# Altium footprint library SamacSys.PcbLib: 25 footprints (part 2 of 2)
Each footprint in its own frame and in the unit in brackets; x right, y up, seen from the top. Pads: shape width x height; smd on the part's side, far side on the other; paste and mask are expansions set on the pad; w line width, h text height; cw(c..) or ccw(c..) is an arc to the next point about the centre after c.
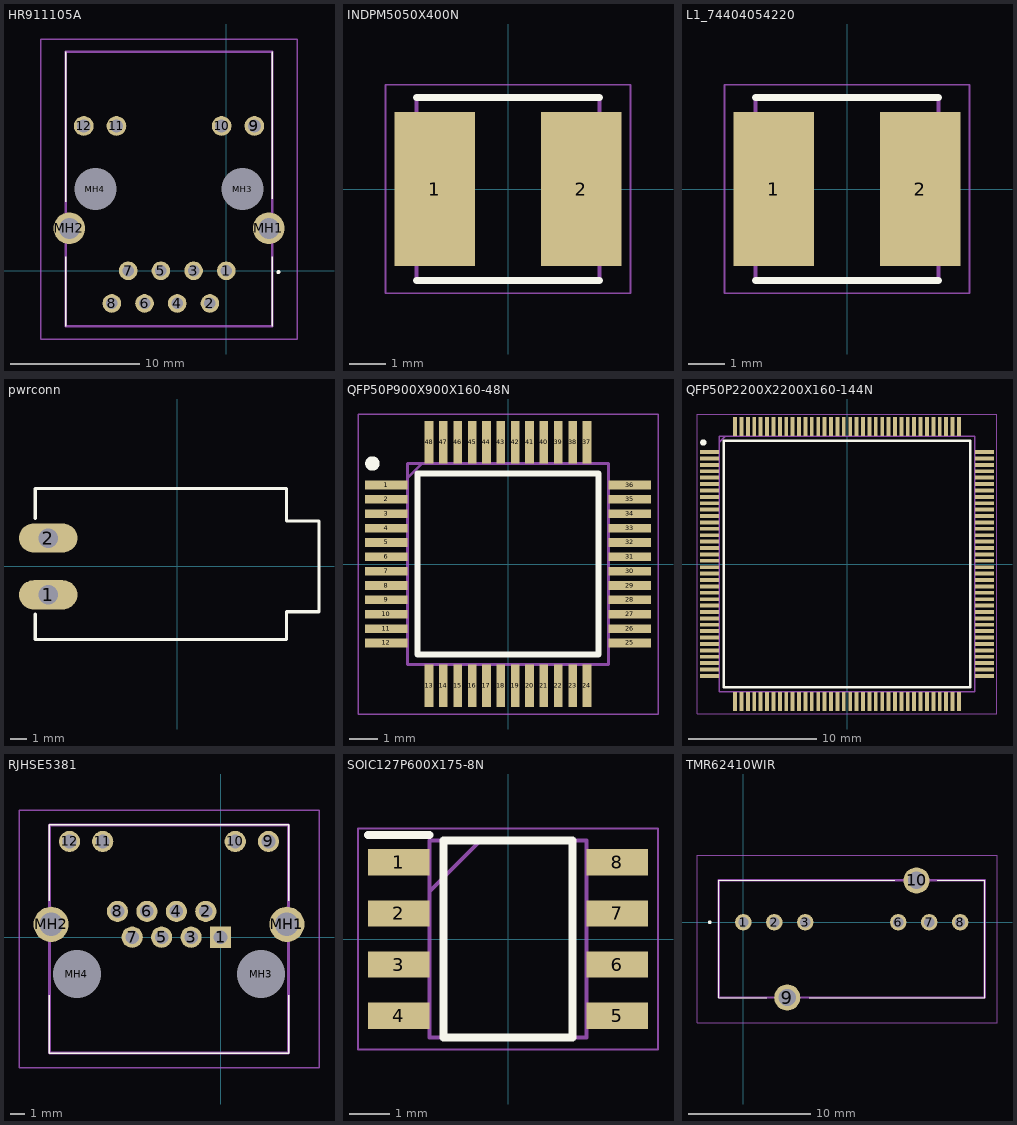
[diagram p1: the footprints below, top view; thin cyan lines are the x and y axes]

## HR911105A [mm]
pads (16):
  round 1.446 hole 0.89: 1(0,0) 2(-1.27,-2.54) 3(-2.54,0) 4(-3.81,-2.54) 5(-5.08,0) 6(-6.35,-2.54) 7(-7.62,0) 8(-8.89,-2.54)
  round 1.53 hole 1.02: 9(2.18,11.25) 10(-0.36,11.25) 11(-8.53,11.25) 12(-11.07,11.25)
  round 2.445 hole 1.63: MH1(3.3,3.3) MH2(-12.19,3.3)
  round 1.625 hole 3.25 unplated: MH3(1.27,6.35) MH4(-10.16,6.35)
Top Overlay:
  lines w0.1: -12.465,-4.3 -12.465,1.1 -12.465,-4.3 ; -12.465,5.35 -12.465,17 -12.465,5.35 ; 3.575,-4.3 3.575,1.1 3.575,-4.3 ; 3.575,5.6 3.575,17 3.575,5.6
  lines w0.2: 4.05,-0.15 ccw(c4.05,-0.1) 4.05,-0.05 ; 4.05,-0.15 cw(c4.05,-0.1) 4.05,-0.05 ; 4.05,-0.15 ccw(c4.05,-0.1) 4.05,-0.05
Mechanical 13:
  lines w0.2: -12.465,-4.3 -12.465,17 3.575,17 3.575,-4.3 -12.465,-4.3
Mechanical 15:
  lines w0.1: -14.417,-5.3 -14.417,18 5.518,18 5.518,-5.3 -14.417,-5.3
3D body "HR911105A.stp": height 13.85, standoff -5, extent -12.899,-4.3 4.015,17

## INDPM5050X400N [mm]
pads (2):
  rect 2.2x4.2 smd: 1(-2,0) 2(2,0)
Top Overlay:
  lines w0.2: -2.5,-2.5 2.5,-2.5 ; -2.5,2.5 2.5,2.5
Mechanical 13:
  lines w0.1: -2.5,-2.5 -2.5,2.5 2.5,2.5 2.5,-2.5 -2.5,-2.5
Mechanical 15:
  lines w0.05: -3.35,-2.85 -3.35,2.85 3.35,2.85 3.35,-2.85 -3.35,-2.85
3D body "74404054220.stp": height 4, standoff 0, extent -2.5,-2.5 2.5,2.5

## L1_74404054220 [mm]
pads (2):
  rect 2.2x4.2 smd: 1(-2,0) 2(2,0)
Top Overlay:
  lines w0.2: -2.5,-2.5 2.5,-2.5 ; -2.5,2.5 2.5,2.5
Mechanical 13:
  lines w0.1: -2.5,-2.5 -2.5,2.5 2.5,2.5 2.5,-2.5 -2.5,-2.5
Mechanical 15:
  lines w0.05: -3.35,-2.85 -3.35,2.85 3.35,2.85 3.35,-2.85 -3.35,-2.85
3D body "74404054220.stp": height 4, standoff 0, extent -2.5,-2.5 2.5,2.5

## pwrconn [mm]
pads (2):
  oval 3.6x1.8 hole 1.2: 1(-7.95,-1.75) 2(-7.95,1.75)
Top Overlay:
  lines w0.2: -8.75,-2.95 -8.75,-4.5 6.75,-4.5 6.75,-2.8 8.75,-2.8 8.75,2.8 6.75,2.8 6.75,4.8 -8.75,4.8 -8.75,2.95

## QFP50P900X900X160-48N [mm]
pads (48):
  rect 1.475x0.3 smd: 1(-4.238,2.75) 2(-4.238,2.25) 3(-4.238,1.75) 4(-4.238,1.25) 5(-4.238,0.75) 6(-4.238,0.25) 7(-4.238,-0.25) 8(-4.238,-0.75) 9(-4.238,-1.25) 10(-4.238,-1.75) 11(-4.238,-2.25) 12(-4.238,-2.75) 25(4.238,-2.75) 26(4.238,-2.25) 27(4.238,-1.75) 28(4.238,-1.25) 29(4.238,-0.75) 30(4.238,-0.25) 31(4.238,0.25) 32(4.238,0.75) 33(4.238,1.25) 34(4.238,1.75) 35(4.238,2.25) 36(4.238,2.75)
  rect 0.3x1.475 smd: 13(-2.75,-4.238) 14(-2.25,-4.238) 15(-1.75,-4.238) 16(-1.25,-4.238) 17(-0.75,-4.238) 18(-0.25,-4.238) 19(0.25,-4.238) 20(0.75,-4.238) 21(1.25,-4.238) 22(1.75,-4.238) 23(2.25,-4.238) 24(2.75,-4.238) 37(2.75,4.238) 38(2.25,4.238) 39(1.75,4.238) 40(1.25,4.238) 41(0.75,4.238) 42(0.25,4.238) 43(-0.25,4.238) 44(-0.75,4.238) 45(-1.25,4.238) 46(-1.75,4.238) 47(-2.25,4.238) 48(-2.75,4.238)
Top Overlay:
  circle w0.25: c-4.725,3.5 r0.125
  lines w0.2: -3.15,-3.15 3.15,-3.15 3.15,3.15 -3.15,3.15 -3.15,-3.15
Mechanical 13:
  lines w0.1: -3.5,3 -3,3.5 ; -3.5,-3.5 3.5,-3.5 3.5,3.5 -3.5,3.5 -3.5,-3.5
Mechanical 15:
  lines w0.05: -5.225,-5.225 5.225,-5.225 5.225,5.225 -5.225,5.225 -5.225,-5.225
3D body "W5500.stp": height 1.6, standoff 0, extent -4.5,-4.5 4.5,4.5

## QFP50P2200X2200X160-144N [mm]
pads (144):
  rect 1.475x0.3 smd: 1(-10.738,8.75) 2(-10.738,8.25) 3(-10.738,7.75) 4(-10.738,7.25) 5(-10.738,6.75) 6(-10.738,6.25) 7(-10.738,5.75) 8(-10.738,5.25) 9(-10.738,4.75) 10(-10.738,4.25) 11(-10.738,3.75) 12(-10.738,3.25) 13(-10.738,2.75) 14(-10.738,2.25) 15(-10.738,1.75) 16(-10.738,1.25) 17(-10.738,0.75) 18(-10.738,0.25) 19(-10.738,-0.25) 20(-10.738,-0.75) 21(-10.738,-1.25) 22(-10.738,-1.75) 23(-10.738,-2.25) 24(-10.738,-2.75) 25(-10.738,-3.25) 26(-10.738,-3.75) 27(-10.738,-4.25) 28(-10.738,-4.75) 29(-10.738,-5.25) 30(-10.738,-5.75) 31(-10.738,-6.25) 32(-10.738,-6.75) 33(-10.738,-7.25) 34(-10.738,-7.75) 35(-10.738,-8.25) 36(-10.738,-8.75) 73(10.738,-8.75) 74(10.738,-8.25) 75(10.738,-7.75) 76(10.738,-7.25) 77(10.738,-6.75) 78(10.738,-6.25) 79(10.738,-5.75) 80(10.738,-5.25) 81(10.738,-4.75) 82(10.738,-4.25) 83(10.738,-3.75) 84(10.738,-3.25) 85(10.738,-2.75) 86(10.738,-2.25) 87(10.738,-1.75) 88(10.738,-1.25) 89(10.738,-0.75) 90(10.738,-0.25) 91(10.738,0.25) 92(10.738,0.75) 93(10.738,1.25) 94(10.738,1.75) 95(10.738,2.25) 96(10.738,2.75) 97(10.738,3.25) 98(10.738,3.75) 99(10.738,4.25) 100(10.738,4.75) 101(10.738,5.25) 102(10.738,5.75) 103(10.738,6.25) 104(10.738,6.75) 105(10.738,7.25) 106(10.738,7.75) 107(10.738,8.25) 108(10.738,8.75)
  rect 0.3x1.475 smd: 37(-8.75,-10.738) 38(-8.25,-10.738) 39(-7.75,-10.738) 40(-7.25,-10.738) 41(-6.75,-10.738) 42(-6.25,-10.738) 43(-5.75,-10.738) 44(-5.25,-10.738) 45(-4.75,-10.738) 46(-4.25,-10.738) 47(-3.75,-10.738) 48(-3.25,-10.738) 49(-2.75,-10.738) 50(-2.25,-10.738) 51(-1.75,-10.738) 52(-1.25,-10.738) 53(-0.75,-10.738) 54(-0.25,-10.738) 55(0.25,-10.738) 56(0.75,-10.738) 57(1.25,-10.738) 58(1.75,-10.738) 59(2.25,-10.738) 60(2.75,-10.738) 61(3.25,-10.738) 62(3.75,-10.738) 63(4.25,-10.738) 64(4.75,-10.738) 65(5.25,-10.738) 66(5.75,-10.738) 67(6.25,-10.738) 68(6.75,-10.738) 69(7.25,-10.738) 70(7.75,-10.738) 71(8.25,-10.738) 72(8.75,-10.738) 109(8.75,10.738) 110(8.25,10.738) 111(7.75,10.738) 112(7.25,10.738) 113(6.75,10.738) 114(6.25,10.738) 115(5.75,10.738) 116(5.25,10.738) 117(4.75,10.738) 118(4.25,10.738) 119(3.75,10.738) 120(3.25,10.738) 121(2.75,10.738) 122(2.25,10.738) 123(1.75,10.738) 124(1.25,10.738) 125(0.75,10.738) 126(0.25,10.738) 127(-0.25,10.738) 128(-0.75,10.738) 129(-1.25,10.738) 130(-1.75,10.738) 131(-2.25,10.738) 132(-2.75,10.738) 133(-3.25,10.738) 134(-3.75,10.738) 135(-4.25,10.738) 136(-4.75,10.738) 137(-5.25,10.738) 138(-5.75,10.738) 139(-6.25,10.738) 140(-6.75,10.738) 141(-7.25,10.738) 142(-7.75,10.738) 143(-8.25,10.738) 144(-8.75,10.738)
Top Overlay:
  circle w0.25: c-11.225,9.5 r0.125
  lines w0.2: -9.65,-9.65 -9.65,9.65 9.65,9.65 9.65,-9.65 -9.65,-9.65
Mechanical 13:
  lines w0.1: -10,9.5 -9.5,10 ; -10,-10 -10,10 10,10 10,-10 -10,-10
Mechanical 15:
  lines w0.05: -11.725,-11.725 -11.725,11.725 11.725,11.725 11.725,-11.725 -11.725,-11.725
3D body "STM32F429ZGT6.stp": height 1.6, standoff 0, extent -11,-11 11,11

## RJHSE5381 [mm]
pads (16):
  rect 1.462x1.462 hole 0.94: 1(0,0)
  round 1.462 hole 0.94: 2(-1.015,1.78) 3(-2.03,0) 4(-3.045,1.78) 5(-4.06,0) 6(-5.075,1.78) 7(-6.09,0) 8(-7.105,1.78) 9(3.308,6.6) 10(1.017,6.6) 11(-8.123,6.6) 12(-10.413,6.6)
  round 2.43 hole 1.62: MH1(4.578,0.89) MH2(-11.683,0.89)
  round 1.65 hole 3.3 unplated: MH3(2.798,-2.54) MH4(-9.902,-2.54)
Top Overlay:
  lines w0.1: -11.808,-4 -11.808,-8 4.703,-8 4.703,-4 ; -11.808,2.5 -11.808,7.75 4.578,7.75 4.703,7.75 4.703,2.5
Mechanical 13:
  lines w0.2: -11.808,-8 4.703,-8 4.703,7.75 -11.808,7.75 -11.808,-8
Mechanical 15:
  lines w0.1: -13.898,-9 6.793,-9 6.793,8.75 -13.898,8.75 -13.898,-9
3D body "RJHSE-5381.stp": height 16.07, standoff -5, extent -12.387,-8 5.288,7.75

## SOIC127P600X175-8N [mm]
pads (8):
  rect 1.525x0.65 smd: 1(-2.712,1.905) 2(-2.712,0.635) 3(-2.712,-0.635) 4(-2.712,-1.905) 5(2.712,-1.905) 6(2.712,-0.635) 7(2.712,0.635) 8(2.712,1.905)
Top Overlay:
  lines w0.2: -3.475,2.58 -1.95,2.58 ; -1.6,-2.45 -1.6,2.45 1.6,2.45 1.6,-2.45 -1.6,-2.45
Mechanical 13:
  lines w0.1: -1.95,1.18 -0.68,2.45 ; -1.95,-2.45 -1.95,2.45 1.95,2.45 1.95,-2.45 -1.95,-2.45
Mechanical 15:
  lines w0.05: -3.725,-2.75 -3.725,2.75 3.725,2.75 3.725,-2.75 -3.725,-2.75
3D body "NE555DR.stp": height 1.75, standoff 0, extent -3,-2.45 3,2.45

## TMR62410WIR [mm]
pads (8):
  round 1.349 hole 0.83: 1(0,0) 2(2.54,0) 3(5.08,0) 6(12.7,0) 7(15.24,0) 8(17.78,0)
  round 2.145 hole 1.43: 9(3.6,-6.175) 10(14.2,3.425)
Top Overlay:
  lines w0.1: -2,-6.175 -2,3.425 ; -2,-6.175 -2,3.425 ; -2,-6.175 1.9,-6.175 -2,-6.175 ; -2,3.425 12.4,3.425 -2,3.425 ; 19.8,-6.175 19.8,3.425 ; 19.8,-6.175 19.8,3.425 ; 19.8,-6.175 5.4,-6.175 19.8,-6.175 ; 19.8,3.425 15.9,3.425 19.8,3.425
  lines w0.2: -2.8,0 ccw(c-2.75,0) -2.7,0 ; -2.8,0 cw(c-2.75,0) -2.7,0 ; -2.8,0 ccw(c-2.75,0) -2.7,0
Mechanical 13:
  lines w0.2: -2,-6.175 -2,3.425 19.8,3.425 19.8,-6.175 -2,-6.175
Mechanical 15:
  lines w0.1: -3.8,-8.248 -3.8,5.497 20.8,5.497 20.8,-8.248 -3.8,-8.248
3D body "TMR_6-2415WIR.stp": height 14.7, standoff -0.6, extent -2.122,-5.951 19.722,3.751